# Altium footprint library EXV476M016A9GAA.PcbLib: 3 footprints
Each footprint in its own frame and in the unit in brackets; x right, y up, seen from the top. Pads: shape width x height; smd on the part's side, far side on the other; paste and mask are expansions set on the pad; w line width, h text height; cw(c..) or ccw(c..) is an arc to the next point about the centre after c.
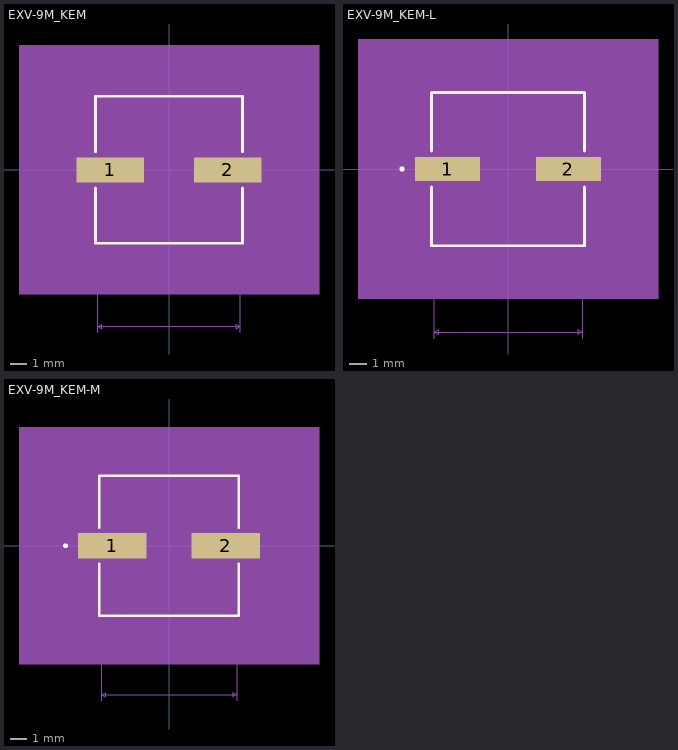
[diagram p0: the footprints below, top view; thin cyan lines are the x and y axes]

## EXV-9M_KEM [mil]
pads (2):
  rect 158x59 smd paste+0 mask+0: 1(-138,0) 2(138,0)
Top Overlay:
  lines w6: -172.5,-42.6 -172.5,-172.5 172.5,-172.5 172.5,-42.6 ; -172.5,42.6 -172.5,172.5 172.5,172.5 172.5,42.6
Mechanical 5:
  region: 352,-292.5 -352,-292.5 -352,292.5 352,292.5
Mechanical 7:
  lines w1: -282.5,-167.5 -167.5,-167.5 -167.5,-382.5 ; -282.5,167.5 -167.5,167.5 ; -247,-267.5 -197,-267.5 ; -197,-282.5 -197,-39.5 ; -197,39.5 -197,282.5 ; -55,-282.5 -55,-19.5 ; -5,-267.5 -55,-267.5 ; 167.5,-382.5 167.5,-167.5 ; 197,39.5 197,282.5 ; 227,-21.5 332,-21.5 ; 227,21.5 332,21.5 ; 317,-71.5 317,-21.5 ; 317,71.5 317,21.5 ; -267.5,-167.5 -262.5,-157.5 -272.5,-157.5 -267.5,-167.5 ; -267.5,-167.5 -267.5,167.5 ; -267.5,167.5 -262.5,157.5 -272.5,157.5 -267.5,167.5 ; -197,-267.5 -207,-272.5 -207,-262.5 -197,-267.5 ; -197,267.5 -187,262.5 -187,272.5 -197,267.5 ; -197,267.5 197,267.5 ; -167.5,-367.5 -157.5,-372.5 -157.5,-362.5 -167.5,-367.5 ; -167.5,-367.5 167.5,-367.5 ; -55,-267.5 -45,-272.5 -45,-262.5 -55,-267.5 ; 167.5,-367.5 157.5,-372.5 157.5,-362.5 167.5,-367.5 ; 197,267.5 187,262.5 187,272.5 197,267.5 ; 317,-21.5 322,-31.5 312,-31.5 317,-21.5 ; 317,21.5 322,31.5 312,31.5 317,21.5
  text "0.335in/8.509mm" at -93.75,-412.5 h25
  text "0.142in/3.607mm" at -219.75,-312.5 h25
  text "0.335in/8.509mm" at -475,-12.5 h25
  text "0.394in/10.008mm" at -100,287.5 h25
  text "0.043in/1.092mm" at 337,-12.5 h25
  text "Alternate 2 Padstyle: OX90Y60D30P" at -412.5,-645.5 h50
  text "Alternate 1 Padstyle: OX60Y90D30P" at -412.5,-545.5 h50
  text "Default Padstyle: RX158Y59D0T" at -362.5,-445.5 h50
Mechanical 13:
  lines w1: -167.5,-83.75 -83.75,-167.5 ; -167.5,83.75 -83.75,167.5 ; -167.5,-167.5 -167.5,167.5 167.5,167.5 167.5,-167.5 -167.5,-167.5
Mechanical 15:
  region: -177.5,-39.5 -227,-39.5 -227,39.5 -177.5,39.5 -177.5,177.5 177.5,177.5 177.5,39.5 227,39.5 227,-39.5 177.5,-39.5 177.5,-177.5 -177.5,-177.5
  lines w6: -227,-39.5 -177.5,-39.5 -177.5,-177.5 177.5,-177.5 177.5,-39.5 227,-39.5 227,39.5 177.5,39.5 177.5,177.5 -177.5,177.5 -177.5,39.5 -227,39.5 -227,-39.5
3D body "EXV-9M_KEM.step": height 415.12, standoff 0, extent -167.48,-197.01 167.48,197.01
3D body "EXV-9M_KEM.step": height 415.12, standoff 0, extent -197.01,-167.48 197.01,167.48

## EXV-9M_KEM-L [mil]
pads (2):
  rect 146x55 smd paste+0 mask+0: 1(-136,0) 2(136,0)
Top Overlay:
  circle w6: c-239,0 r3
  lines w6: -172.5,-40.6 -172.5,-172.5 172.5,-172.5 172.5,-40.6 ; -172.5,40.6 -172.5,172.5 172.5,172.5 172.5,40.6
Mechanical 5:
  region: 338,-292.5 -338,-292.5 -338,292.5 338,292.5
Mechanical 7:
  lines w1: -282.5,-167.5 -167.5,-167.5 -167.5,-382.5 ; -282.5,167.5 -167.5,167.5 ; -247,-267.5 -197,-267.5 ; -197,-282.5 -197,-37.5 ; -197,37.5 -197,282.5 ; -55,-282.5 -55,-17.5 ; -5,-267.5 -55,-267.5 ; 167.5,-382.5 167.5,-167.5 ; 197,37.5 197,282.5 ; 219,-21.5 324,-21.5 ; 219,21.5 324,21.5 ; 309,-71.5 309,-21.5 ; 309,71.5 309,21.5 ; -267.5,-167.5 -267.5,167.5 ; -267.5,-167.5 -272.5,-157.5 -262.5,-157.5 -267.5,-167.5 ; -267.5,167.5 -272.5,157.5 -262.5,157.5 -267.5,167.5 ; -197,-267.5 -207,-262.5 -207,-272.5 -197,-267.5 ; -197,267.5 197,267.5 ; -197,267.5 -187,272.5 -187,262.5 -197,267.5 ; -167.5,-367.5 167.5,-367.5 ; -167.5,-367.5 -157.5,-362.5 -157.5,-372.5 -167.5,-367.5 ; -55,-267.5 -45,-262.5 -45,-272.5 -55,-267.5 ; 167.5,-367.5 157.5,-362.5 157.5,-372.5 167.5,-367.5 ; 197,267.5 187,272.5 187,262.5 197,267.5 ; 309,-21.5 304,-31.5 314,-31.5 309,-21.5 ; 309,21.5 304,31.5 314,31.5 309,21.5
  text "Default Padstyle: RX146Y55D0T" at -362.5,-447.5 h50
  text "Alternate 1 Padstyle: OX60Y90D30P" at -412.5,-547.5 h50
  text "Alternate 2 Padstyle: OX90Y60D30P" at -412.5,-647.5 h50
  text "0.043in/1.092mm" at 329,-12.5 h25
  text "0.394in/10.008mm" at -100,287.5 h25
  text "0.335in/8.509mm" at -475,-12.5 h25
  text "0.142in/3.607mm" at -219.75,-312.5 h25
  text "0.335in/8.509mm" at -93.75,-412.5 h25
Mechanical 13:
  circle w0: c-147.5,0 r3
  lines w1: -167.5,-83.75 -83.75,-167.5 ; -167.5,83.75 -83.75,167.5 ; -167.5,-167.5 167.5,-167.5 167.5,167.5 -167.5,167.5 -167.5,-167.5
Mechanical 15:
  region: -171.5,-31.5 -213,-31.5 -213,31.5 -171.5,31.5 -171.5,171.5 171.5,171.5 171.5,31.5 213,31.5 213,-31.5 171.5,-31.5 171.5,-171.5 -171.5,-171.5
  lines w6: -213,-31.5 -213,31.5 -171.5,31.5 -171.5,171.5 171.5,171.5 171.5,31.5 213,31.5 213,-31.5 171.5,-31.5 171.5,-171.5 -171.5,-171.5 -171.5,-31.5 -213,-31.5
3D body "EXV-9M_KEM.step": height 415.12, standoff 0, extent -197.01,-167.48 197.01,167.48

## EXV-9M_KEM-M [mil]
pads (2):
  rect 170x63 smd paste+0 mask+0: 1(-140,0) 2(140,0)
Top Overlay:
  circle w6: c-255,0 r3
  lines w6: -172.5,-44.6 -172.5,-172.5 172.5,-172.5 172.5,-44.6 ; -172.5,44.6 -172.5,172.5 172.5,172.5 172.5,44.6
Mechanical 5:
  region: 370,-292.5 -370,-292.5 -370,292.5 370,292.5
Mechanical 7:
  lines w1: -282.5,-167.5 -167.5,-167.5 -167.5,-382.5 ; -282.5,167.5 -167.5,167.5 ; -247,-267.5 -197,-267.5 ; -197,-282.5 -197,-41.5 ; -197,41.5 -197,282.5 ; -55,-282.5 -55,-21.5 ; -5,-267.5 -55,-267.5 ; 167.5,-382.5 167.5,-167.5 ; 197,41.5 197,282.5 ; 235,-21.5 340,-21.5 ; 235,21.5 340,21.5 ; 325,-71.5 325,-21.5 ; 325,71.5 325,21.5 ; -267.5,-167.5 -267.5,167.5 ; -267.5,-167.5 -272.5,-157.5 -262.5,-157.5 -267.5,-167.5 ; -267.5,167.5 -272.5,157.5 -262.5,157.5 -267.5,167.5 ; -197,-267.5 -207,-262.5 -207,-272.5 -197,-267.5 ; -197,267.5 197,267.5 ; -197,267.5 -187,272.5 -187,262.5 -197,267.5 ; -167.5,-367.5 167.5,-367.5 ; -167.5,-367.5 -157.5,-362.5 -157.5,-372.5 -167.5,-367.5 ; -55,-267.5 -45,-262.5 -45,-272.5 -55,-267.5 ; 167.5,-367.5 157.5,-362.5 157.5,-372.5 167.5,-367.5 ; 197,267.5 187,272.5 187,262.5 197,267.5 ; 325,-21.5 320,-31.5 330,-31.5 325,-21.5 ; 325,21.5 320,31.5 330,31.5 325,21.5
  text "Default Padstyle: RX170Y63D0T" at -362.5,-443.5 h50
  text "Alternate 1 Padstyle: OX60Y90D30P" at -412.5,-543.5 h50
  text "Alternate 2 Padstyle: OX90Y60D30P" at -412.5,-643.5 h50
  text "0.043in/1.092mm" at 345,-12.5 h25
  text "0.394in/10.008mm" at -100,287.5 h25
  text "0.335in/8.509mm" at -475,-12.5 h25
  text "0.142in/3.607mm" at -219.75,-312.5 h25
  text "0.335in/8.509mm" at -93.75,-412.5 h25
Mechanical 13:
  circle w0: c-147.5,0 r3
  lines w1: -167.5,-83.75 -83.75,-167.5 ; -167.5,83.75 -83.75,167.5 ; -167.5,-167.5 167.5,-167.5 167.5,167.5 -167.5,167.5 -167.5,-167.5
Mechanical 15:
  region: -187.5,-51.5 -245,-51.5 -245,51.5 -187.5,51.5 -187.5,187.5 187.5,187.5 187.5,51.5 245,51.5 245,-51.5 187.5,-51.5 187.5,-187.5 -187.5,-187.5
  lines w6: -245,-51.5 -245,51.5 -187.5,51.5 -187.5,187.5 187.5,187.5 187.5,51.5 245,51.5 245,-51.5 187.5,-51.5 187.5,-187.5 -187.5,-187.5 -187.5,-51.5 -245,-51.5
3D body "EXV-9M_KEM.step": height 415.12, standoff 0, extent -197.01,-167.48 197.01,167.48